# Altium footprint library RELAY_G2RL-1-E.PcbLib: 1 footprints
Each footprint in its own frame and in the unit in brackets; x right, y up, seen from the top. Pads: shape width x height; smd on the part's side, far side on the other; paste and mask are expansions set on the pad; w line width, h text height; cw(c..) or ccw(c..) is an arc to the next point about the centre after c.
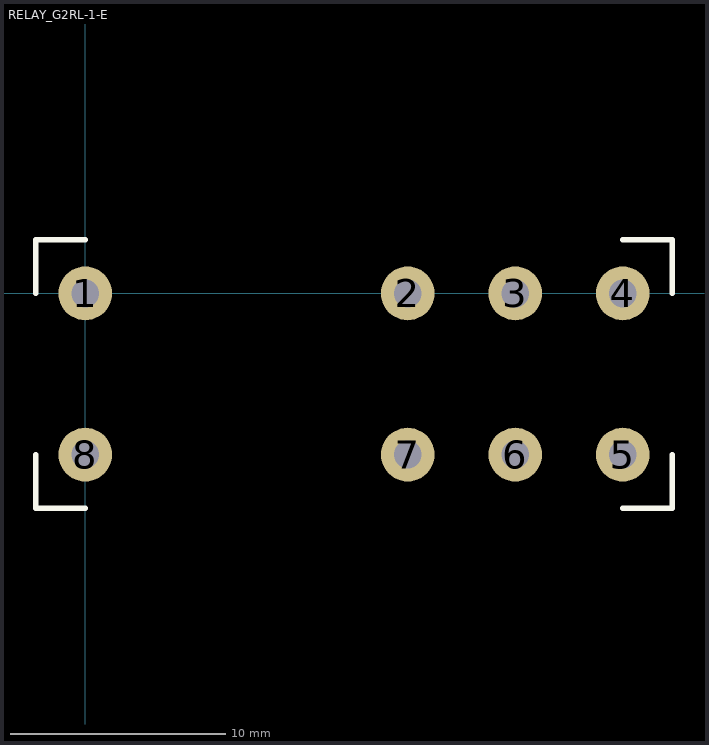
[diagram p0: the footprint, top view; thin cyan lines are the x and y axes]

## RELAY_G2RL-1-E [mm] "Omron G2RL-1-E Relay"
pads (8):
  round 2.5 hole 1.3: 1(0,0) 2(15,0) 3(20,0) 4(25,0) 5(25,-7.5) 6(20,-7.5) 7(15,-7.5) 8(0,-7.5)
Top Overlay:
  lines w0.254: -2.3,-7.5 -2.3,-10 0,-10 ; -2.3,0 -2.3,2.5 0,2.5 ; 25,-10 27.3,-10 27.3,-7.5 ; 25,2.5 27.3,2.5 27.3,0
3D body: height 0.25, standoff -26.8, extent 18.3,5.6 18.3,5.6
3D body: height 15.7, standoff 0, extent -2.3,-10 27.3,2.5